# EAGLE library part DP3R020?U32JQ (library Parts for D-DAQ)
JAE Mini DisplayPort, aka Thunderbolt
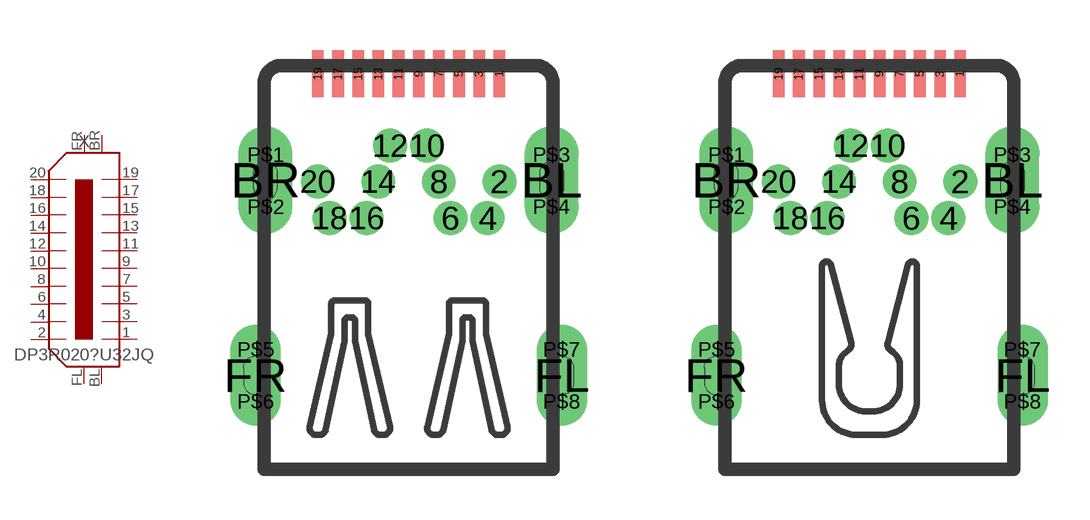
[diagram p19: symbol with the pads of JAE-MDP-STD; footprints JAE-MDP-STD, JAE-MDP-RVSD]

Designator prefix X

## DP3R020SU32JQ (ORIENTATION: Standard)  [JAE-MDP-STD]
1  1  nc
2  2  pas
3  3
4  4
5  5
6  6
7  7  pas
8  8  pas
9  9
10  10
11  11
12  12
13  13  pas
14  14  pas
15  15
16  16
17  17
18  18
19  19  nc
20  20  pas
BL  BL  pas
BR  BR  pas
FL  FL  pas
FR  FR  pas

## DP3R020RU32JQ (ORIENTATION: Reversed)  [JAE-MDP-RVSD]
Pads as for JAE-MDP-STD

## Footprint JAE-MDP-STD (pad centres in mm)
smd 0.35 x 1.4: 1 2.7,6.25; 3 2.1,6.25; 5 1.5,6.25; 7 0.9,6.25; 9 0.3,6.25; 11 -0.3,6.25; 13 -0.9,6.25; 15 -1.5,6.25; 17 -2.1,6.25; 19 -2.7,6.25
drill 0.5 pad 0.85: 2 2.7,3.042; 8 0.9,3.042; 14 -0.9,3.042
drill 0.5 pad 0.8: 4 2.35,1.955; 6 1.25,1.955; 10 0.55,4.11; 12 -0.55,4.11; 16 -1.25,1.955; 18 -2.35,1.955; 20 -2.7,3.042
drill 0.8 pad 1.6 long: BL 4.26,3.09; BR -4.26,3.09
drill 0.8 pad 1.5 long: FL 4.56,-2.72; FR -4.56,-2.72
drill 0.5 pad 0.7: P$1 -4.25,3.85; P$2 -4.25,2.3; P$3 4.25,3.85; P$4 4.25,2.3; P$5 -4.55,-1.95; P$6 -4.55,-3.5; P$7 4.55,-1.95; P$8 4.55,-3.5

## Footprint JAE-MDP-RVSD (pad centres in mm)
smd 0.35 x 1.4: 1 2.7,6.25; 3 2.1,6.25; 5 1.5,6.25; 7 0.9,6.25; 9 0.3,6.25; 11 -0.3,6.25; 13 -0.9,6.25; 15 -1.5,6.25; 17 -2.1,6.25; 19 -2.7,6.25
drill 0.5 pad 0.85: 2 2.7,3.042; 8 0.9,3.042; 14 -0.9,3.042
drill 0.5 pad 0.8: 4 2.35,1.955; 6 1.25,1.955; 10 0.55,4.11; 12 -0.55,4.11; 16 -1.25,1.955; 18 -2.35,1.955; 20 -2.7,3.042
drill 0.8 pad 1.6 long: BL 4.26,3.09; BR -4.26,3.09
drill 0.8 pad 1.5 long: FL 4.56,-2.72; FR -4.56,-2.72
drill 0.5 pad 0.7: P$1 -4.25,3.85; P$2 -4.25,2.3; P$3 4.25,3.85; P$4 4.25,2.3; P$5 -4.55,-1.95; P$6 -4.55,-3.5; P$7 4.55,-1.95; P$8 4.55,-3.5